# Altium schematic symbol library 125SH-A-04-TS.SchLib: 1 symbol
Pins are listed as number, name and electrical type; pins without a type are passive.

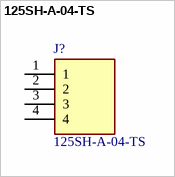
[diagram p0: symbol 125SH-A-04-TS]

## 125SH-A-04-TS
designator J?
Crimp, Wire to Board, Secure Lock Header 4P 1.25mm Pitch; Manufacturer_Name: Adam Tech; Geometry.Height: 5.08mm; TME Electronic Components Part Number: *; TME Electronic Components Price/Stock: *; Manufacturer_Part_Number: 125SH-A-04-TS; Datasheet Link: https://app.adam-tech.com/products/download/data_sheet/196951/125sh-a-xx-ts-data-sheet.pdf
footprint 125SHA04TS
pins: 1, 2, 3, 4